# Altium footprint library MIC29302.PcbLib: 9 footprints
Each footprint in its own frame and in the unit in brackets; x right, y up, seen from the top. Pads: shape width x height; smd on the part's side, far side on the other; paste and mask are expansions set on the pad; w line width, h text height; cw(c..) or ccw(c..) is an arc to the next point about the centre after c.
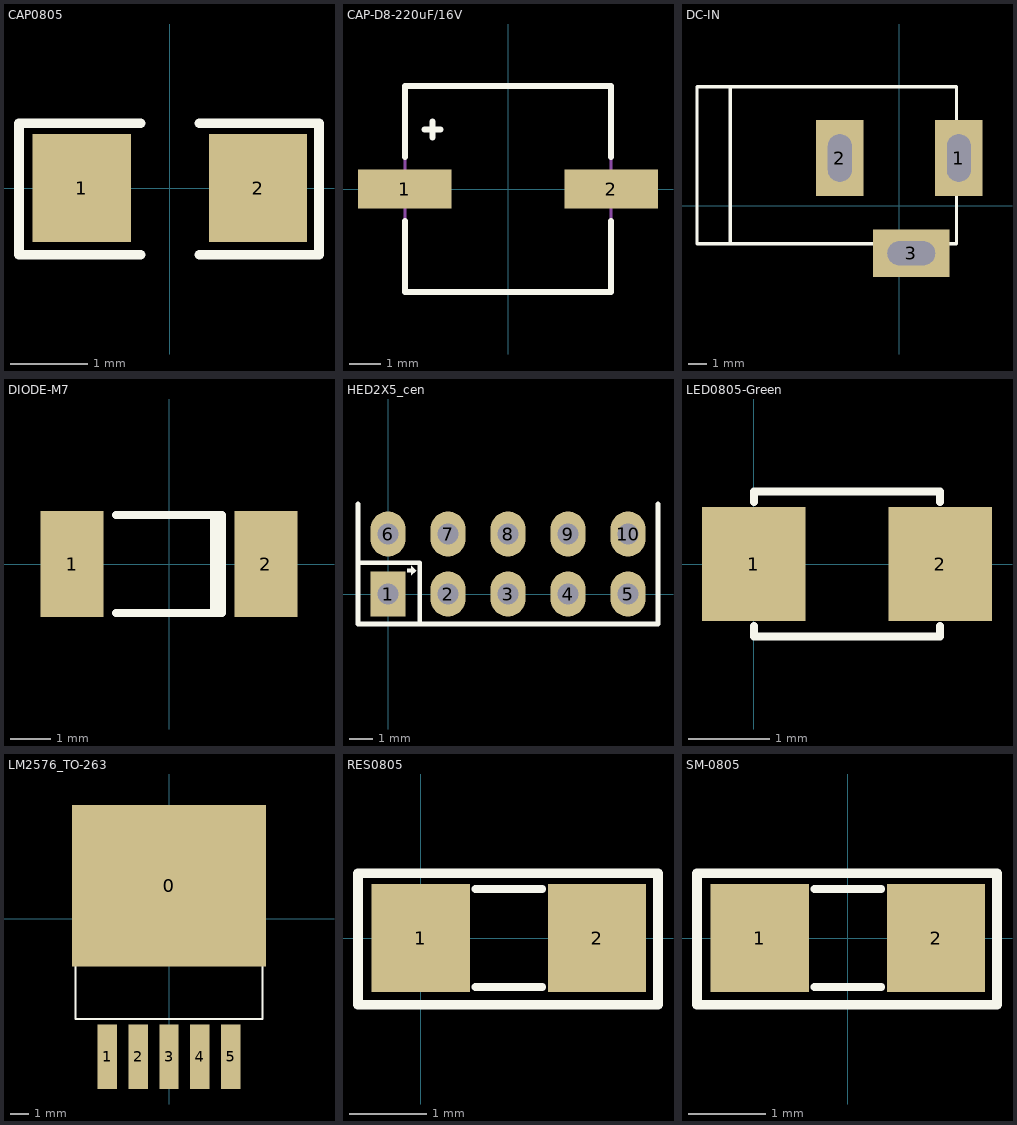
[diagram p0: the footprints below, top view; thin cyan lines are the x and y axes]

## CAP0805 [mil]
pads (2):
  rect 50x55 smd: 1(-45,0) 2(45,0)
Top Overlay:
  lines w5: -15,-34 -77,-34 -77,33 -15,33 ; 15,-34 76,-34 76,33 15,33
3D body: height 31.39, standoff 0.6, extent -39.37,-24.6 39.37,24.61

## CAP-D8-220uF/16V [mm] "6.3 x 7.7 mm"
height 7.7
pads (2):
  rect 3x1.25 smd: 1(-3.302,0) 2(3.302,0)
Top Overlay:
  lines w0.2: -3.3,-1.025 -3.3,-3.3 3.3,-3.3 3.3,-1.025 ; -3.3,1.025 -3.3,3.3 3.3,3.3 3.3,1.025 ; -2.667,1.905 -2.159,1.905 ; -2.413,1.651 -2.413,2.159
Mechanical 13:
  lines w0.1: -3.3,-3.3 3.3,-3.3 3.3,3.3 -3.3,3.3 -3.3,-3.3
3D body: height 7.72, standoff 0.02, extent -3.5,-3.249 3.5,3.351

## DC-IN [mil] "Jac DC input"
height 200
pads (3):
  rect 100x160 hole 50 slot 100 at 90 deg: 1(125,100) 2(-125,100)
  rect 160x100 hole 50 slot 100 at 0 deg: 3(25,-100)
Top Overlay:
  lines w7: -355,-80 -355,250 ; -425,-80 120,-80 120,250 -425,250 -425,-80
3D body: height 433.67, standoff -137.2, extent -410.35,-105.12 134,269.12

## DIODE-M7 [mm] "Metal Electrode Face (MELF) Diode; Body 3.5 x 1.5 mm (LxDia)"
height 1.5
pads (2):
  rect 1.55x2.6 smd: 1(-2.375,0) 2(2.375,0)
Top Overlay:
  lines w0.2: -1.3,-1.2 1.3,-1.2 1.3,1.2 -1.3,1.2 ; 1.11,-1.2 1.11,1.2
3D body: height 2.32, standoff 0.02, extent -2.7,-1.771 2.7,1.829

## HED2X5_cen [mm] "Connector; Header; 5x2 Position"
pads (10):
  rect 1.5x1.9 hole 0.9: 1(0,0)
  oval 1.5x1.9 hole 0.9: 2(2.54,0) 3(5.08,0) 4(7.62,0) 5(10.16,0) 6(0,2.54) 7(2.54,2.54) 8(5.08,2.54) 9(7.62,2.54) 10(10.16,2.54)
Top Overlay:
  region: 0.813,1.067 0.991,1.067 0.991,1.194 1.194,0.991 0.991,0.787 0.991,0.914 0.813,0.914
  lines w0.178: -1.219,1.321 1.346,1.321 1.346,1.194 1.346,-1.194
  lines w0.2: -1.27,3.81 -1.27,-1.27 11.43,-1.27 11.43,3.81
3D body: height 5.02, standoff -2.98, extent -1.245,-10.024 11.455,2.856

## LED0805-Green [mil]
pads (2):
  rect 50x55 smd: 1(0,0) 2(90,0)
Top Overlay:
  lines w4: 0,-30 0,-35 90,-35 90,-30 ; 0,30 0,35 90,35 90,30
3D body: height 43.31, standoff 0, extent 5.24,-24.6 84.77,24.61

## LM2576_TO-263 [mil]
pads (6):
  rect 420x350 smd: 0(0,70.87)
  rect 42x140 smd: 1(-134,-299.13) 2(-67,-299.21) 3(0,-299.13) 4(67,-299.13) 5(134,-299.13)
Top Overlay:
  lines w5: -202.56,162.6 202.56,162.6 ; -202.56,-217.72 -202.56,195.08 -179.92,217.72 179.92,217.72 202.56,195.08 202.56,-217.72 -202.56,-217.72
3D body: height 179.53, standoff 0, extent -200,-339.17 200,212.6

## RES0805 [mil]
pads (2):
  rect 50x55 smd: 1(0,0) 2(90,0)
Top Overlay:
  lines w4: 28,-25 62,-25 ; 28,25 62,25
  lines w5: -32,-34 121,-34 121,33 -32,33 -32,-34
3D body: height 31.39, standoff 0.6, extent 5.63,-24.6 84.37,24.61

## SM-0805 [mil] "Compoment SMD 80x50mil"
height 50
pads (2):
  rect 50x55 smd: 1(-45,0) 2(45,0)
Top Overlay:
  lines w4: -17,-25 17,-25 ; -17,25 17,25
  lines w5: -77,-34 76,-34 76,33 -77,33 -77,-34
3D body: height 24.02, standoff -0.39, extent -39.76,-27 39.77,23